# Altium schematic symbol library MOSFET P SO-8.Schlib: 1 symbol
Pins are listed as number, name and electrical type; pins without a type are passive.

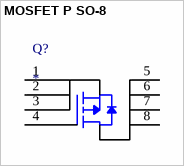
[diagram p0: symbol MOSFET P SO-8]

## MOSFET P SO-8
designator Q?
pins: 1 S, 2 S, 3 S, 4 G, 5 D, 6 D, 7 D, 8 D
2 alternate drawings of the same symbol